# Altium footprint library Sample.PcbLib: 14 footprints
Each footprint in its own frame and in the unit in brackets; x right, y up, seen from the top. Pads: shape width x height; smd on the part's side, far side on the other; paste and mask are expansions set on the pad; w line width, h text height; cw(c..) or ccw(c..) is an arc to the next point about the centre after c.
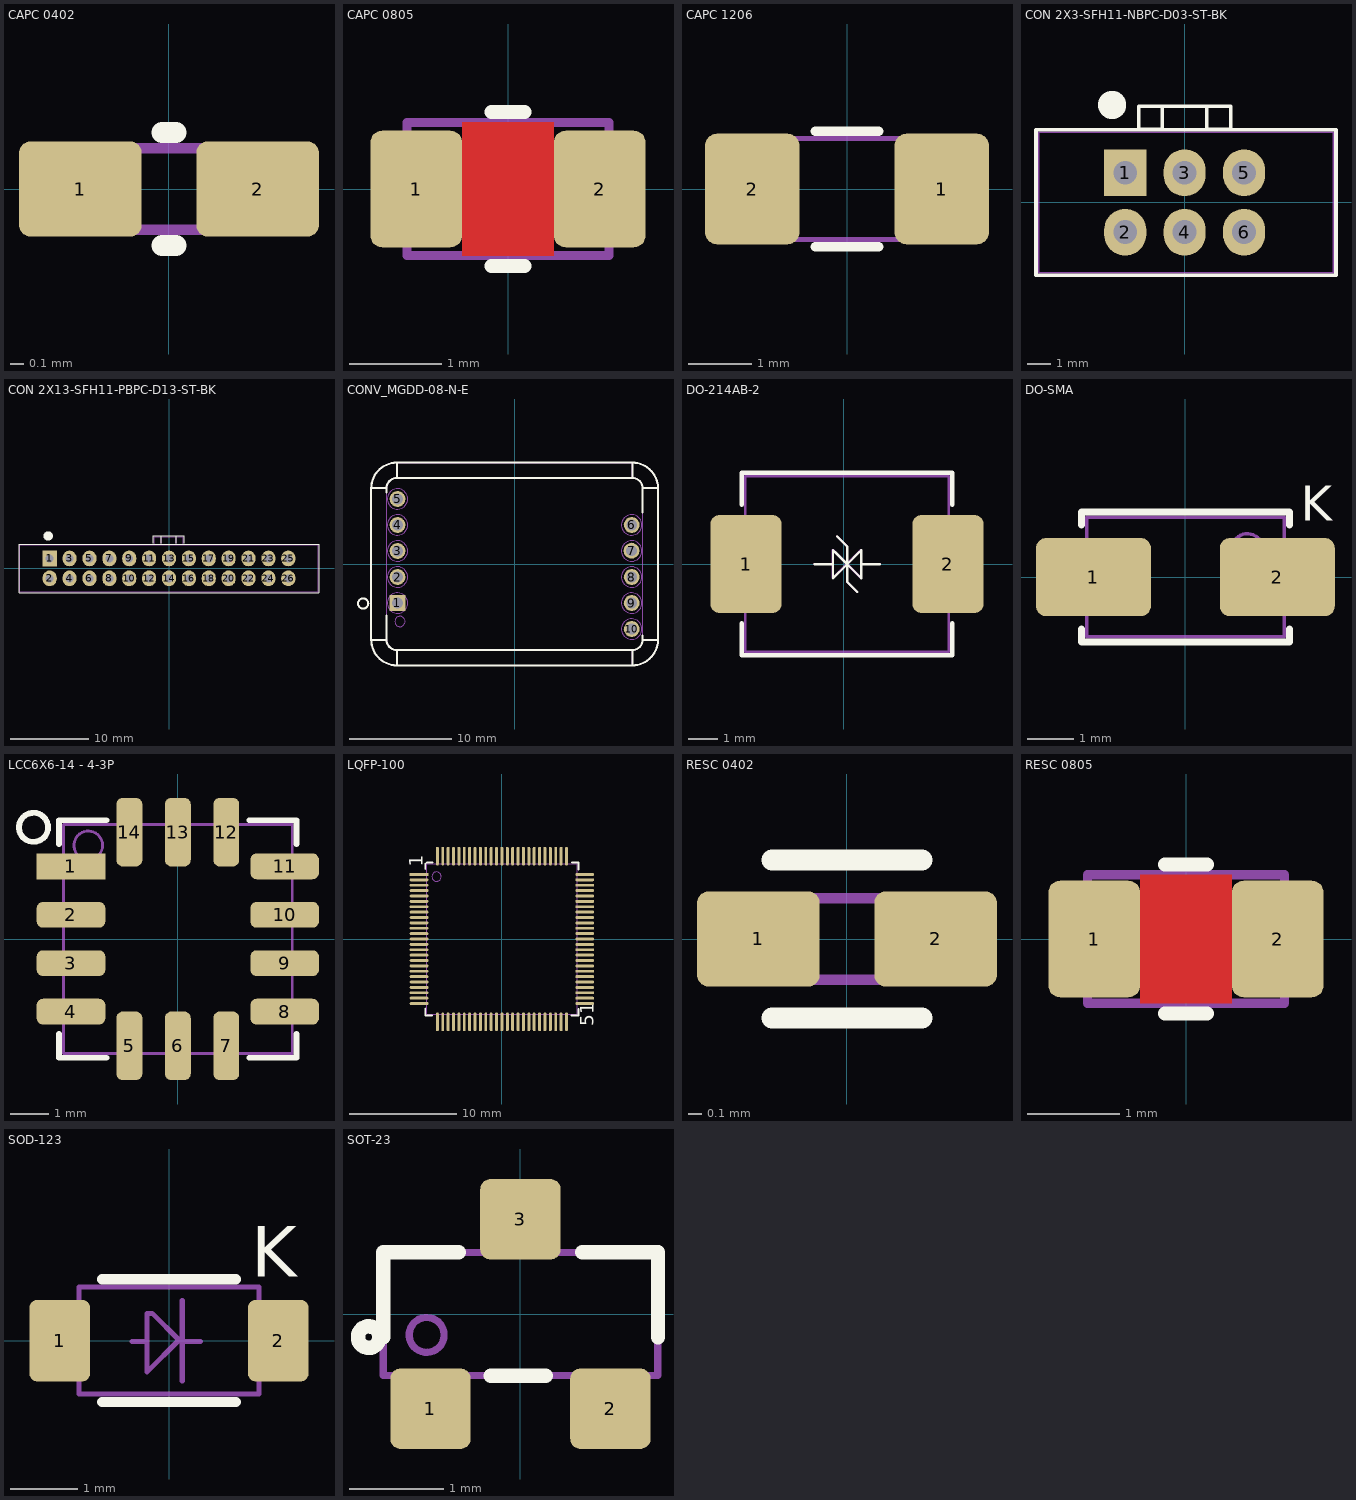
[diagram p0: the footprints below, top view; thin cyan lines are the x and y axes]

## CAPC 0402 [mm] "Chip Capacitor, 2-Leads, Body 1.00x0.50mm, SM782A"
height 0.6
pads (2):
  rrect25% 0.9x0.7 smd: 1(-0.65,0) 2(0.65,0)
Top Overlay:
  lines w0.152: -0.051,-0.414 0.051,-0.414 ; -0.051,0.414 0.051,0.414
Top Assembly:
  lines w0.076: -0.55,-0.3 0.55,-0.3 0.55,0.3 -0.55,0.3 -0.55,-0.3
Top Designator:
  text ".Designator" at -0.427,-0.189 h0.38
3D body: height 0.6, standoff 0, extent -0.35,-0.3 0.35,0.3
3D body: height 0.6, standoff 0, extent -0.35,-0.3 0.35,0.3

## CAPC 0805 [mm] "CAP0805 (08051C102KAT2A  VJ0805Y104KXACW1BC"
height 0.9
pads (2):
  rrect25% 1x1.27 smd: 1(-1,0) 2(1,0)
Top Layer:
  pour cut-out: -0.5,0.725 0.5,0.725 0.5,-0.725 -0.5,-0.725
Top Overlay:
  lines w0.152: -0.178,-0.839 0.178,-0.839 ; -0.178,0.839 0.178,0.839
Top Assembly:
  lines w0.1: -1.1,-0.725 -1.1,0.725 1.1,0.725 1.1,-0.725 -1.1,-0.725
Top Designator:
  text ".Designator" at -0.93,-0.338 h0.69
3D body: height 1.1, standoff 0, extent -1.1,-0.725 1.1,0.725

## CAPC 1206 [mm] "GRM31BR72J103KW01L"
height 1.25
pads (2):
  rrect25% 1.5x1.75 smd: 1(1.5,0) 2(-1.5,0)
Top Overlay:
  lines w0.152: -0.5,-0.914 0.5,-0.914 ; -0.5,0.914 0.5,0.914
Top Assembly:
  lines w0.076: -1.6,-0.8 -1.6,0.8 1.6,0.8 1.6,-0.8 -1.6,-0.8
Top Designator:
  text ".Designator" at -1.228,-0.485 h1.02
3D body "User Library-CAPC3216X10.STEP": height 1, standoff 0, extent -1.6,-0.8 1.6,0.8

## CON 2X3-SFH11-NBPC-D03-ST-BK [mm] "CONN HDR 6POS 2.54MM PITCH TH GOLD"
height 8.5
pads (6):
  rect 1.8x2 hole 1.02: 1(-2.54,1.27)
  oval 1.8x2 hole 1.02: 2(-2.54,-1.27) 3(0,1.27) 4(0,-1.27) 5(2.54,1.27) 6(2.54,-1.27)
Top Overlay:
  circle w1: c-3.099,4.166 r0.1
  lines w0.152: -6.35,3.111 -6.35,-3.117 6.452,-3.117 ; -6.337,3.111 6.452,3.111 ; -1.964,3.115 -1.964,4.113 ; -1.956,4.115 -0.95,4.115 0.95,4.115 1.956,4.115 ; -1.85,3.115 -0.95,3.115 -0.95,4.087 ; 0.95,4.087 0.95,3.115 1.85,3.115 ; 1.964,3.115 1.964,4.113 ; 6.464,-3.099 6.464,3.111
Top Assembly:
  lines w0.076: -6.236,-3 -6.236,3 6.35,3 6.35,-2.994 6.344,-3 -6.236,-3
3D body "SFH11-_ _ _C-D03-ST-_ _ (1).STEP": height 8.54, standoff -3.16, extent -6.378,-2.889 6.321,4.111

## CON 2X13-SFH11-PBPC-D13-ST-BK [mm] "CONN HDR 26POS 2.54MM PITCH TH GOLD"
height 8.5
pads (26):
  rect 1.8x2 hole 1.02: 1(-15.24,1.27)
  oval 1.8x2 hole 1.02: 2(-15.24,-1.27) 3(-12.7,1.27) 4(-12.7,-1.27) 5(-10.16,1.27) 6(-10.16,-1.27) 7(-7.62,1.27) 8(-7.62,-1.27) 9(-5.08,1.27) 10(-5.08,-1.27) 11(-2.54,1.27) 12(-2.54,-1.27) 13(0,1.27) 14(0,-1.27) 15(2.54,1.27) 16(2.54,-1.27) 17(5.08,1.27) 18(5.08,-1.27) 19(7.62,1.27) 20(7.62,-1.27) 21(10.16,1.27) 22(10.16,-1.27) 23(12.7,1.27) 24(12.7,-1.27) 25(15.24,1.27) 26(15.24,-1.27)
Top Overlay:
  circle w1: c-15.443,4.14 r0.1
  lines w0.152: -19.164,-3.117 -19.164,3.111 19.152,3.111 ; -19.126,-3.117 -5.66,-3.117 -2.642,-3.117 ; -2.86,-3.117 -1.96,-3.117 ; -2.011,3.19 -2.011,4.188 ; -2.002,4.19 -0.997,4.19 0.903,4.19 1.909,4.19 ; -1.977,-3.117 19.152,-3.117 ; -0.997,3.19 -0.997,4.163 ; 0.903,3.19 0.903,4.163 ; 1.918,3.19 1.918,4.188 ; 19.164,-3.117 19.164,3.111
Top Assembly:
  lines w0.076: -19.05,2.99 -19.05,-3 -5.66,-3 -4.76,-3 ; -2.86,-3 -1.96,-3 11.43,-3 ; -1.897,3.073 -1.897,4.073 -0.997,4.073 ; -0.997,3.073 -0.997,4.073 ; 0.903,3.073 0.903,4.073 ; 1.803,3.073 1.803,4.073 0.903,4.073 ; -0.997,4.073 0.903,4.073
  lines w0.152: -19.05,2.99 -19.05,-3 19.05,-3 ; -19.05,2.997 19.05,2.997 19.05,-3.003 ; -5.66,-3 -4.76,-3 ; -2.86,-3 -1.96,-3 11.43,-3 ; -1.897,3.073 -1.897,4.073 -0.997,4.073 ; -0.997,3.073 -0.997,4.073 ; 0.903,3.073 0.903,4.073 ; 1.803,3.073 1.803,4.073 0.903,4.073 ; -0.997,4.073 0.903,4.073
3D body "SFH11-_ _ _C-D13-ST-_ _.STEP": height 8.54, standoff -3.16, extent -19.05,-2.923 19.05,4.077

## CONV_MGDD-08-N-E [mm] "Class-3"
height 8.2
pads (10):
  rect 1.55x1.55 hole 1.05 mask+0.076: 1(-11.434,-3.798)
  round 1.55 hole 1.05 mask+0.076: 2(-11.425,-1.27) 3(-11.425,1.27) 4(-11.425,3.81) 5(-11.425,6.35) 6(11.435,3.81) 7(11.42,1.3) 8(11.435,-1.27) 9(11.435,-3.81) 10(11.435,-6.35)
Top Overlay:
  circle w0.2: c-14.784,-3.857 r0.5
  lines w0.2: -12.495,-5.053 -12.495,-7.4 ; -12.495,7 -12.495,7.4 ; 12.505,-7 12.505,-7.4 ; 12.505,5.053 12.505,7.4 ; -13.995,-7.4 ccw(c-11.495,-7.4) -11.495,-9.9 ; -13.995,-7.4 -12.495,-7.4 ; -13.995,-7.4 -13.995,7.4 ; -13.995,7.4 cw(c-11.495,7.4) -11.495,9.9 ; -13.995,7.4 -12.495,7.4 ; -12.495,-7.4 ccw(c-11.495,-7.4) -11.495,-8.4 ; -12.495,7.4 cw(c-11.495,7.4) -11.495,8.4 ; -11.495,-9.9 -11.495,-8.4 ; -11.495,-9.9 11.505,-9.9 ; -11.495,-8.4 11.505,-8.4 ; -11.495,8.4 11.505,8.4 ; -11.495,8.4 -11.495,9.9 ; -11.495,9.9 11.505,9.9 ; 11.505,-9.9 ccw(c11.505,-7.4) 14.005,-7.4 ; 11.505,-9.9 11.505,-8.4 ; 11.505,-8.4 ccw(c11.505,-7.4) 12.505,-7.4 ; 11.505,8.4 cw(c11.505,7.4) 12.505,7.4 ; 11.505,8.4 11.505,9.9 ; 11.505,9.9 cw(c11.505,7.4) 14.005,7.4 ; 12.505,-7.4 14.005,-7.4 ; 12.505,7.4 14.005,7.4 ; 14.005,-7.4 14.005,7.4
Top Assembly:
  circle w0.1: c-11.183,-5.613 r0.5
  circle w0.1: c-11.425,6.35 r1
  circle w0.1: c-11.425,-3.81 r1
  circle w0.1: c-11.425,-1.27 r1
  circle w0.1: c-11.425,1.27 r1
  circle w0.1: c-11.425,3.81 r1
  circle w0.1: c11.435,-6.35 r1
  circle w0.1: c11.435,-3.81 r1
  circle w0.1: c11.435,-1.27 r1
  circle w0.1: c11.435,1.27 r1
  circle w0.1: c11.435,3.81 r1
  lines w0.1: -11.745,6.67 -11.745,6.03 -11.105,6.03 -11.105,6.67 ; -13.995,-7.4 ccw(c-11.495,-7.4) -11.495,-9.9 ; -13.995,-7.4 -13.995,7.4 ; -13.995,-7.4 -12.495,-7.4 ; -13.995,7.4 cw(c-11.495,7.4) -11.495,9.9 ; -13.995,7.4 -12.495,7.4 ; -12.495,-7.4 ccw(c-11.495,-7.4) -11.495,-8.4 ; -12.495,-7.4 -12.495,7.4 ; -12.495,7.4 cw(c-11.495,7.4) -11.495,8.4 ; -11.495,-9.9 11.505,-9.9 ; -11.495,-9.9 -11.495,-8.4 ; -11.495,-8.4 11.505,-8.4 ; -11.495,8.4 -11.495,9.9 ; -11.495,8.4 11.505,8.4 ; -11.495,9.9 11.505,9.9 ; 11.505,-9.9 ccw(c11.505,-7.4) 14.005,-7.4 ; 11.505,-9.9 11.505,-8.4 ; 11.505,-8.4 ccw(c11.505,-7.4) 12.505,-7.4 ; 11.505,8.4 cw(c11.505,7.4) 12.505,7.4 ; 11.505,8.4 11.505,9.9 ; 11.505,9.9 cw(c11.505,7.4) 14.005,7.4 ; 12.505,-7.4 14.005,-7.4 ; 12.505,-7.4 12.505,7.4 ; 12.505,7.4 14.005,7.4 ; 14.005,-7.4 14.005,7.4 ; -11.745,-4.13 -11.105,-4.13 -11.105,-3.49 -11.745,-3.49 -11.745,-4.13 ; -11.745,-1.59 -11.105,-1.59 -11.105,-0.95 -11.745,-0.95 -11.745,-1.59 ; -11.745,0.95 -11.745,1.59 -11.105,1.59 -11.105,0.95 -11.745,0.95 ; -11.745,3.49 -11.105,3.49 -11.105,4.13 -11.745,4.13 -11.745,3.49 ; 11.115,-6.67 11.755,-6.67 11.755,-6.03 11.115,-6.03 11.115,-6.67 ; 11.115,-4.13 11.755,-4.13 11.755,-3.49 11.115,-3.49 11.115,-4.13 ; 11.115,-1.59 11.755,-1.59 11.755,-0.95 11.115,-0.95 11.115,-1.59 ; 11.115,0.95 11.755,0.95 11.755,1.59 11.115,1.59 11.115,0.95 ; 11.115,3.49 11.755,3.49 11.755,4.13 11.115,4.13 11.115,3.49
Top Designator:
  text ".Designator" at -3.407,-0.679 h1.52
3D body "DC-DC Converter_Gaia_MGDD-08-N-E.STEP": height 8.21, standoff -4.6, extent -14,-9.9 14,9.9

## DO-214AB-2 [mm] "8.0SMDJ36CA"
height 2.4
pads (2):
  rrect25% 2.4x3.3 smd: 1(-3.298,0) 2(3.502,0)
Top Overlay:
  lines w0.076: -0.99,-0.008 -0.366,-0.008 ; -0.298,0.4 0.102,0 ; -0.226,0.927 0.109,0.592 0.109,-0.608 0.445,-0.943 ; 0.509,0.392 0.109,-0.008 ; 0.584,-0.008 1.209,-0.008 ; 0.109,-0.008 -0.366,-0.483 -0.366,0.467 0.109,-0.008 ; 0.109,-0.008 0.584,-0.483 0.584,0.467 0.109,-0.008
  lines w0.152: -3.439,-2 -3.439,-3.064 3.642,-3.064 ; -3.439,2 -3.439,3.064 3.642,3.064 3.642,2 ; 3.643,-3.064 3.643,-2
Top Assembly:
  lines w0.076: -0.998,0 -0.373,0 ; -0.234,0.935 0.102,0.6 0.102,-0.6 0.437,-0.935 ; 0.502,0.4 0.102,0 ; 0.577,0 1.201,0 ; 0.102,0 -0.373,0.475 -0.373,-0.475 0.102,0 ; 0.102,0 0.577,-0.475 0.577,0.475 0.102,0 ; -3.326,-2.95 3.529,-2.95 3.529,2.95 -3.326,2.95 -3.326,-2.95
Top Designator:
  text ".Designator" at -6.121,-0.635 h1.52
3D body "8.0SMDJ36A.stp": height 2.62, standoff 0, extent -3.861,-2.923 4.079,2.982

## DO-SMA [mm] "4.3X2.605mm SMA pkg  B320A - B360A , B120/B-B160/B Series, B150-13-F"
height 2.4
pads (2):
  rrect25% 2.5x1.7 smd: 1(-2,0) 2(2,0)
Top Overlay:
  lines w0.152: -2.264,-1.133 -2.264,-1.414 2.264,-1.414 2.264,-1.133 ; -2.264,1.133 -2.264,1.414 2.264,1.414 2.264,1.133
  text "K" at 2.515,1.219 h0.76
Top Assembly:
  circle w0.076: c1.35,0.606 r0.336
  lines w0.076: -2.15,-1.3 -2.15,1.3 2.15,1.3 2.15,-1.3 -2.15,-1.3
  text "K" at 2.362,-0.229 h0.51
Top Designator:
  text ".Designator" at -1.674,-0.647 h1.52
3D body: height 2.4, standoff 0, extent -2.157,-1.302 2.157,1.302

## LCC6X6-14 - 4-3P [mm] "ADXL355BEZ"
height 2.35
pads (14):
  rect 1.8x0.68 smd paste+0 mask+0.102: 1(-2.8,1.905)
  rrect50% 1.8x0.68 smd paste+0 mask+0.102: 2(-2.8,0.635) 3(-2.8,-0.635) 4(-2.8,-1.905) 8(2.8,-1.905) 9(2.8,-0.635) 10(2.8,0.635) 11(2.8,1.905)
  rrect50% 0.68x1.8 smd paste+0 mask+0.102: 5(-1.27,-2.8) 6(0,-2.8) 7(1.27,-2.8) 12(1.27,2.8) 13(0,2.8) 14(-1.27,2.8)
Top Overlay:
  circle w0.152: c-3.781,2.927 r0.381
  lines w0.152: -3.114,-2.492 -3.114,-3.114 -1.871,-3.114 ; -3.114,2.492 -3.114,3.114 -1.871,3.114 ; 1.871,-3.114 3.114,-3.114 3.114,-2.492 ; 1.871,3.114 3.114,3.114 3.114,2.492
Top Assembly:
  circle w0.076: c-2.347,2.453 r0.375
  lines w0.076: -3,-3 3,-3 3,3 -3,3 -3,-3
Top Designator:
  text ".Designator" at -1.512,-0.672 h1.52
3D body "Accelerometer_ADXL355BEZ_Analog Devices.STEP": height 2.2, standoff 0, extent -3.125,-3.125 3.125,3.125

## LQFP-100 [mm] "14X14mm  LPC2387FBD100,551 ,STM32F765VGT6"
height 1.6
pads (100):
  rect 1.75x0.27 smd: 1(-7.7,6)
  oval 1.75x0.27 smd: 2(-7.7,5.5) 3(-7.7,5) 4(-7.7,4.5) 5(-7.7,4) 6(-7.7,3.5) 7(-7.7,3) 8(-7.7,2.5) 9(-7.7,2) 10(-7.7,1.5) 11(-7.7,1) 12(-7.7,0.5) 13(-7.7,0) 14(-7.7,-0.5) 15(-7.7,-1) 16(-7.7,-1.5) 17(-7.7,-2) 18(-7.7,-2.5) 19(-7.7,-3) 20(-7.7,-3.5) 21(-7.7,-4) 22(-7.7,-4.5) 23(-7.7,-5) 24(-7.7,-5.5) 25(-7.7,-6) 51(7.7,-6) 52(7.7,-5.5) 53(7.7,-5) 54(7.7,-4.5) 55(7.7,-4) 56(7.7,-3.5) 57(7.7,-3) 58(7.7,-2.5) 59(7.7,-2) 60(7.7,-1.5) 61(7.7,-1) 62(7.7,-0.5) 63(7.7,0) 64(7.7,0.5) 65(7.7,1) 66(7.7,1.5) 67(7.7,2) 68(7.7,2.5) 69(7.7,3) 70(7.7,3.5) 71(7.7,4) 72(7.7,4.5) 73(7.7,5) 74(7.7,5.5) 75(7.7,6)
  oval 0.27x1.75 smd: 26(-6,-7.7) 27(-5.5,-7.7) 28(-5,-7.7) 29(-4.5,-7.7) 30(-4,-7.7) 31(-3.5,-7.7) 32(-3,-7.7) 33(-2.5,-7.7) 34(-2,-7.7) 35(-1.5,-7.7) 36(-1,-7.7) 37(-0.5,-7.7) 38(0,-7.7) 39(0.5,-7.7) 40(1,-7.7) 41(1.5,-7.7) 42(2,-7.7) 43(2.5,-7.7) 44(3,-7.7) 45(3.5,-7.7) 46(4,-7.7) 47(4.5,-7.7) 48(5,-7.7) 49(5.5,-7.7) 50(6,-7.7) 76(6,7.7) 77(5.5,7.7) 78(5,7.7) 79(4.5,7.7) 80(4,7.7) 81(3.5,7.7) 82(3,7.7) 83(2.5,7.7) 84(2,7.7) 85(1.5,7.7) 86(1,7.7) 87(0.5,7.7) 88(0,7.7) 89(-0.5,7.7) 90(-1,7.7) 91(-1.5,7.7) 92(-2,7.7) 93(-2.5,7.7) 94(-3,7.7) 95(-3.5,7.7) 96(-4,7.7) 97(-4.5,7.7) 98(-5,7.7) 99(-5.5,7.7) 100(-6,7.7)
Top Overlay:
  lines w0.152: -7.114,-6.444 -7.114,-7.114 -6.477,-7.114 ; -7.114,6.477 -7.114,6.983 -6.983,7.114 -6.444,7.114 ; 6.444,-7.114 7.114,-7.114 7.114,-6.477 ; 6.477,7.114 7.114,7.114 7.114,6.444
  text "1" at -7.34,6.693 h1.27
  text "51" at 8.539,-8.1 h1.27
Top Solder:
  region: 6.246,-8.679 6.246,-6.721 -6.241,-6.721 -6.241,-8.679
  region: -6.241,8.679 -6.241,6.721 6.246,6.721 6.246,8.679
  region: 8.679,6.241 6.721,6.241 6.721,-6.246 8.679,-6.246
  rectangle: -8.679,-6.246 -6.721,6.241
Top Assembly:
  circle w0.076: c-6.075,5.8 r0.43
  lines w0.076: -7,-7 -7,7 7,7 7,-7 -7,-7
Top Designator:
  text ".Designator" at -6.019,-0.479 h1.52
3D body: height 1.6, standoff 0, extent -7,-7 7,7

## RESC 0402 [mm] "Chip Resistor, 2-Leads, Body 1.00x0.50mm, SM782A"
height 0.4
pads (2):
  rrect25% 0.9x0.7 smd: 1(-0.65,0) 2(0.65,0)
Top Overlay:
  lines w0.152: -0.55,-0.579 0.55,-0.579 ; -0.55,0.579 0.55,0.579
Top Assembly:
  lines w0.076: -0.55,-0.3 0.55,-0.3 0.55,0.3 -0.55,0.3 -0.55,-0.3
Top Designator:
  text ".Designator" at -0.427,-0.186 h0.38
3D body: height 0.4, standoff 0, extent 0.35,-0.3 0.55,0.3
3D body: height 0.4, standoff 0, extent -0.55,-0.3 -0.35,0.3
3D body: height 0.4, standoff 0, extent -0.35,-0.3 0.35,0.3

## RESC 0805 [mm] "RES0805"
height 0.65
pads (2):
  rrect25% 1x1.27 smd: 1(-1,0) 2(1,0)
Top Layer:
  pour cut-out: -0.5,0.7 0.5,0.7 0.5,-0.7 -0.5,-0.7
Top Overlay:
  lines w0.152: -0.229,-0.814 0.229,-0.814 ; -0.229,0.814 0.229,0.814
Top Assembly:
  lines w0.1: -1.075,-0.7 1.075,-0.7 1.075,0.7 -1.075,0.7 -1.075,-0.7
Top Designator:
  text ".Designator" at -0.921,-0.33 h0.69
3D body: height 0.65, standoff 0, extent -1.075,-0.7 1.075,0.7

## SOD-123 [mm] "2.6 X 1.6mm (MMSZ4xxxT1G Series,  SZMMSZ4xxxT1G Series, MMSZxxxT1G series)(MMSZ4685T1G ,MMSZ4681T1G, MMSZ4687T1G, MMSZ4698T1G, MMSZ3V6T1G, MMSZ4693T1G"
height 1.35
pads (2):
  rrect25% 0.91x1.22 smd paste-0.1: 1(-1.635,0) 2(1.635,0)
Top Overlay:
  lines w0.152: -1,-0.917 1,-0.917 ; -1,0.917 1,0.917
  text "K" at 1.233,0.952 h0.76
Top Assembly:
  lines w0.076: -0.552,-0.016 -0.327,-0.016 -0.327,0.409 ; 0.199,-0.6 0.199,0.6 ; 0.198,-0.016 0.472,-0.016 ; -0.327,0.409 -0.327,-0.466 0.149,0.009 ; -0.327,0.409 -0.252,0.409 ; -0.252,0.409 0.149,0.009 ; -0.252,0.409 0.149,0.009 ; -1.345,-0.8 -1.345,0.8 1.345,0.8 1.345,-0.8 -1.345,-0.8
  text "K" at 1.626,-0.229 h0.51
Top Designator:
  text ".Designator" at -0.983,-0.272 h0.76
3D body: height 1.35, standoff 0, extent -1.345,-0.8 1.345,0.8

## SOT-23 [mm] "2.9 X 1.3mm ( DBZ pkg dwg)CDSOT23-SM712, SBC817-16LT3G, NUP2105LT1G, MAX6101EUR+T, GSOT03C-HE3-08 , MMBZ12VALT1G, BSS123NH6433XTMA1, DZ23C16-7-F, TPD2E2U06QDBZRQ, , BAS40 Series, AP2120N-1.8TRG1,AP7333-33SAG-7, MCP1700T-3002E/TT, AP2120N-3.0TRG1,AP7384-50SA-7, MCP9700AT-E/TT, TPD2E2U06QDBZRQ1, TMP235AQDBZTQ1"
height 1.11
pads (3):
  rrect25% 0.85x0.85 smd: 1(-0.95,-1) 2(0.95,-1) 3(0,1)
Top Overlay:
  circle w0.152: c-1.602,-0.244 r0.114
  lines w0.152: -1.45,-0.246 -1.45,0.65 -0.65,0.65 ; -0.312,-0.653 0.269,-0.653 ; 0.653,0.65 1.453,0.65 1.453,-0.246
Top Assembly:
  circle w0.076: c-0.991,-0.221 r0.184
  lines w0.076: -1.45,0.65 1.45,0.65 ; -1.45,0.65 1.45,0.65 ; -1.45,0.65 -1.45,-0.65 1.45,-0.65 1.45,0.65
Top Designator:
  text ".Designator" at -0.569,-0.367 h0.76
3D body "SW3DPS-SOT-23-DEFAULT.STEP": height 1.06, standoff -0.04, extent -1.5,-1.25 1.5,1.25